# EAGLE library part 5031821852 (library 2025-03-10_17-20-19_Library)
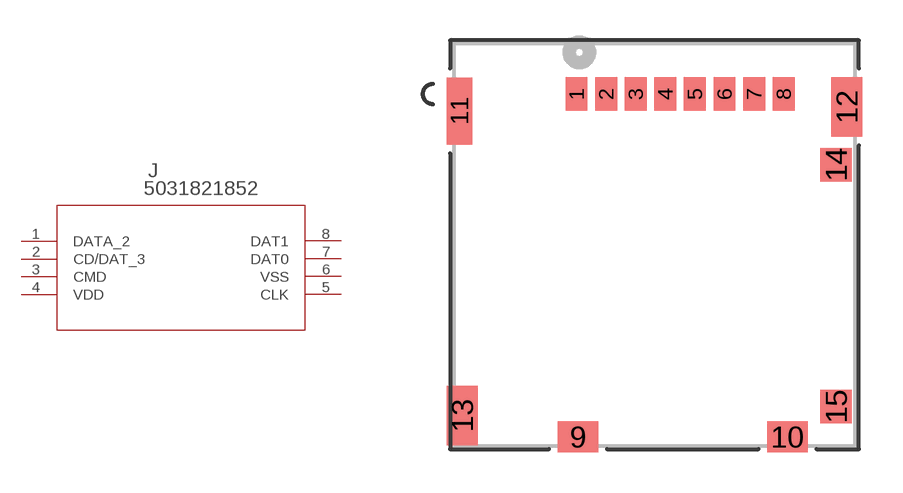
[diagram p0: symbol with the pads of 503182-1852_MOL; footprint 503182-1852_MOL]

Designator prefix J

## 5031821852503182-1852_MOL (Copyright: Copyright (C) 2025 Ultra Librarian. All rights reserved.; Manufacturer_Part_Number: 5031821852; Mfr_Name: Molex Connector Corporation)  [503182-1852_MOL]
1  DATA_2
2  CD/DAT_3
3  CMD  pas
4  VDD  pwr
5  CLK  pas
6  VSS  pas
7  DAT0
8  DAT1

## Footprint 503182-1852_MOL (pad centres in mm)
smd 0.813 x 1.245: 1 -2.9,-5.61; 2 -1.8,-5.61; 3 -0.7,-5.61; 4 0.4,-5.61; 5 1.5,-5.61; 6 2.6,-5.61; 7 3.7,-5.61; 8 4.8,-5.61
smd 1.499 x 1.143: 9 -2.84,-18.365; 10 4.94,-18.365
smd 0.94 x 2.489: 11 -7.245,-6.24
smd 1.143 x 2.21: 12 7.145,-6.09; 13 -7.145,-17.57
smd 1.168 x 1.245: 14 6.74,-8.24; 15 6.74,-17.24